# EAGLE library part ISO1050 (library customics)
Isolated CAN Transceiver Source: http://www.ti.com/lit/ds/symlink/iso1050.pdf
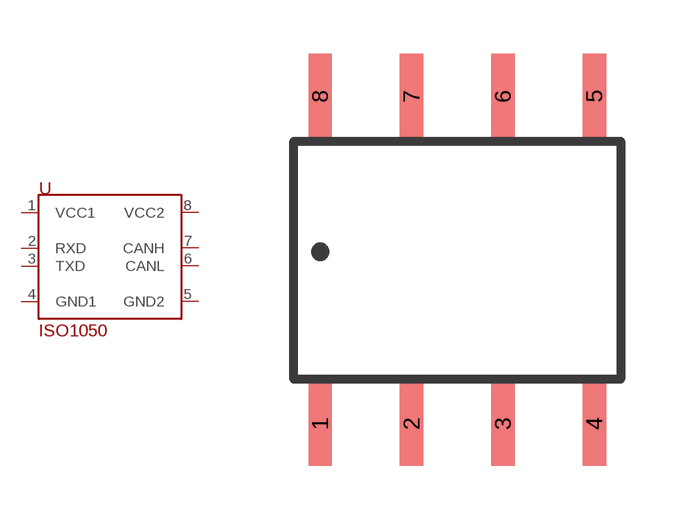
[diagram p2: symbol with the pads of SOP08; footprint SOP08]

Designator prefix U

## ISO1050  [SOP08]
1  VCC1  pwr
2  RXD  out
3  TXD  in
4  GND1  pwr
5  GND2  pwr
6  CANL  in
7  CANH  in
8  VCC2  pwr

## Footprint SOP08 (pad centres in mm)
SOP 08 - AQW21, AQW61 Series NAiS Source: http://www.mew-europe.com/.. pti_en.pdf
smd 0.65 x 2.35: 1 -3.81,-6.3; 2 -1.27,-6.3; 3 1.27,-6.3; 4 3.81,-6.3; 5 3.81,2.8; 6 1.27,2.8; 7 -1.27,2.8; 8 -3.81,2.8